# Altium footprint library PCB - CONNECTOR - MOLEX - MOLEX 0526101033.PcbLib: 1 footprints
Each footprint in its own frame and in the unit in brackets; x right, y up, seen from the top. Pads: shape width x height; smd on the part's side, far side on the other; paste and mask are expansions set on the pad; w line width, h text height; cw(c..) or ccw(c..) is an arc to the next point about the centre after c.
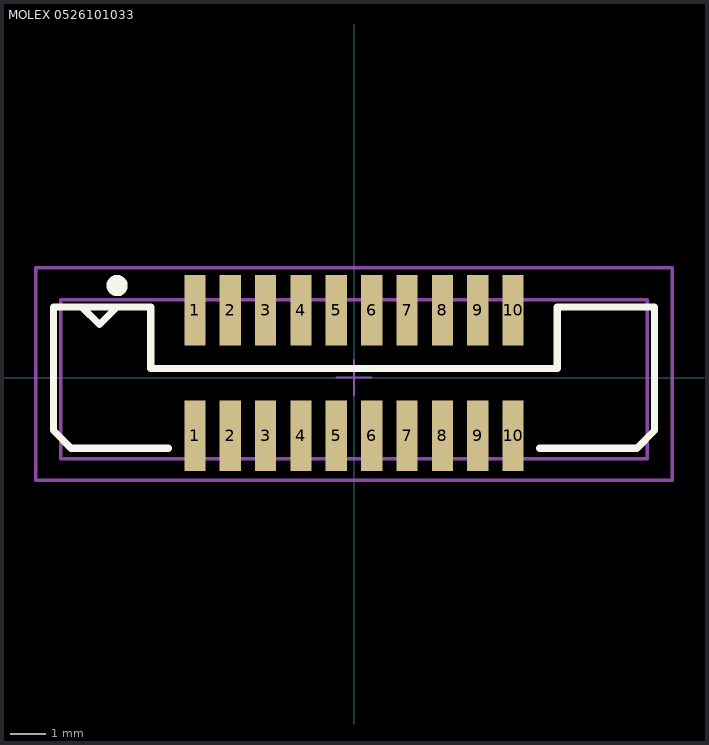
[diagram p0: the footprint, top view; thin cyan lines are the x and y axes]

## MOLEX 0526101033 [mm] "12 Position FPC Connector Contacts, Vertical - 1 Sided 0.039\" (1.00mm) Surface Mount"
height 7.25
pads (20):
  rect 0.6x2 smd mask+0.1: 1(-4.5,1.9) 1(-4.5,-1.65) 2(-3.5,1.9) 2(-3.5,-1.65) 3(-2.5,1.9) 3(-2.5,-1.65) 4(-1.5,1.9) 4(-1.5,-1.65) 5(-0.5,1.9) 5(-0.5,-1.65) 6(0.5,1.9) 6(0.5,-1.65) 7(1.5,1.9) 7(1.5,-1.65) 8(2.5,1.9) 8(2.5,-1.65) 9(3.5,1.9) 9(3.5,-1.65) 10(4.5,1.9) 10(4.5,-1.65)
Top Overlay:
  circle w0.3: c-6.7,2.6 r0.15
  lines w0.2: -7.7,2 -7.2,1.5 -6.7,2 ; -5.25,-2 -8,-2 -8.5,-1.5 -8.5,2 -5.75,2 -5.75,0.25 5.75,0.25 5.75,2 8.5,2 8.5,1.6 8.5,-1.5 8,-2 5.25,-2
Mechanical 13:
  lines w0.1: -8.3,-2.3 8.3,-2.3 8.3,2.2 -8.3,2.2 -8.3,-2.3
Mechanical 15 (Mech15):
  lines w0.05: -0.5,0 0,0 ; 0,-0.5 0,0 ; 0,0.5 0,0 ; 0.5,0 0,0
  lines w0.1: -9,-2.9 9,-2.9 9,3.1 -9,3.1 -9,-2.9
3D body "Molex - 526101033.stp": height 5.73, standoff -0.02, extent -8.3,-2.25 8.3,2.25